# EAGLE library part LSM6DS3_WITHOUT (library UNKNOWN-2024)
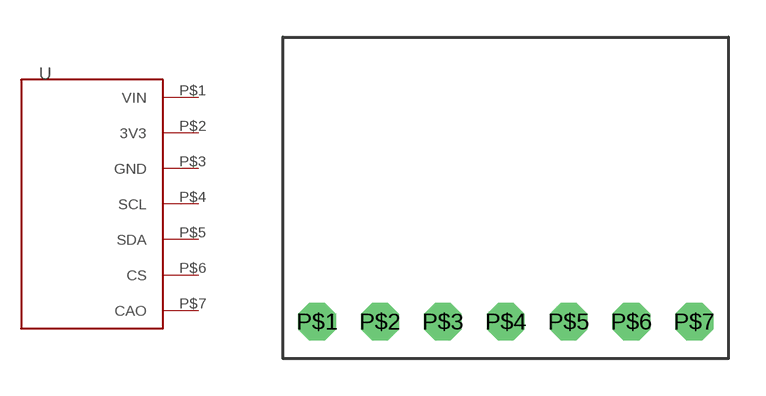
[diagram p19: symbol with the pads of LSM6DS3_WITHOUT; footprint LSM6DS3_WITHOUT]

Designator prefix -

## LSM6DS3_WITHOUT  [LSM6DS3_WITHOUT]
P$1  VIN
P$2  3V3
P$3  GND
P$4  SCL
P$5  SDA
P$6  CS
P$7  CAO

## Footprint LSM6DS3_WITHOUT (pad centres in mm)
drill 1.016 octagon: P$1 -7.62,-5; P$2 -5.08,-5; P$3 -2.54,-5; P$4 0,-5; P$5 2.54,-5; P$6 5.08,-5; P$7 7.62,-5